# Altium footprint library Touch.PcbLib: 1 footprints
Each footprint in its own frame and in the unit in brackets; x right, y up, seen from the top. Pads: shape width x height; smd on the part's side, far side on the other; paste and mask are expansions set on the pad; w line width, h text height; cw(c..) or ccw(c..) is an arc to the next point about the centre after c.
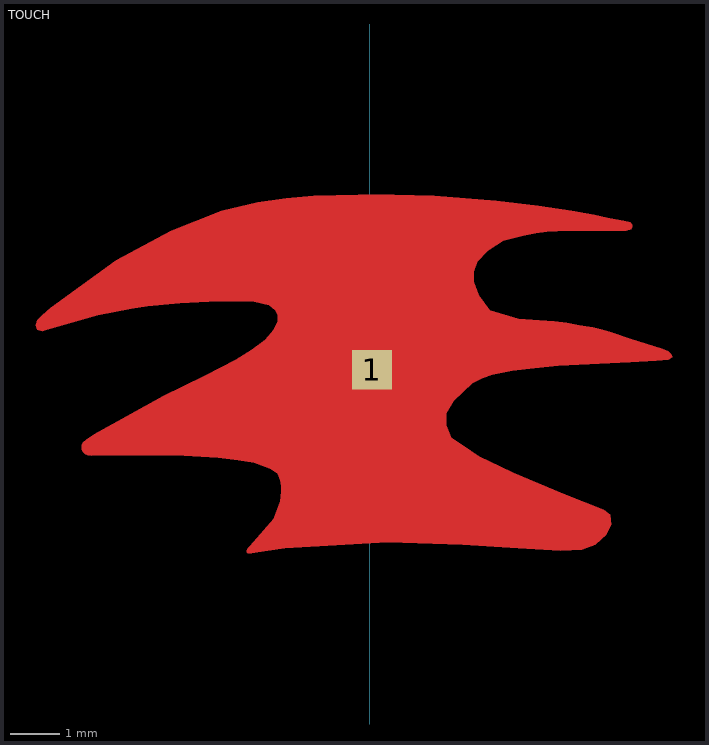
[diagram p0: the footprint, top view; thin cyan lines are the x and y axes]

## TOUCH [mm]
pads (1):
  rect 0.8x0.8 smd paste+0 mask+0: 1(0.05,22)
Top Layer:
  region: -2.25,25.375 -1.675,25.45 -1.125,25.5 -0.225,25.525 0.5,25.525 1.3,25.5 2.55,25.4 3.4,25.3 4.075,25.2 4.525,25.125 4.79,25.066 5.125,25 5.25,24.975 5.3,24.925 5.3,24.875 5.275,24.825 5.175,24.8 4,24.8 3.575,24.775 3.35,24.75 3.1,24.7 2.7,24.6 2.386,24.4 2.175,24.175 2.1,23.975 2.1,23.775 2.2,23.5 2.425,23.2 3,23.025 3.425,23 3.725,22.975 3.975,22.95 4.225,22.9 4.5,22.85 4.7,22.8 4.875,22.75 5.25,22.625 5.9,22.425 6.025,22.375 6.075,22.325 6.1,22.275 6.1,22.25 6.075,22.225 6.025,22.2 5.775,22.175 5.25,22.15 3.8,22.075 3.325,22.025 2.875,21.975 2.475,21.9 2.275,21.825 2.075,21.725 1.7,21.375 1.55,21.125 1.55,20.875 1.65,20.625 1.875,20.475 2.2,20.25 2.625,20.05 2.9,19.925 3.9,19.5 4.725,19.175 4.85,19.075 4.875,18.875 4.775,18.675 4.55,18.475 4.275,18.375 3.85,18.35 3,18.4 1.875,18.475 0.37,18.522 -1.711,18.4 -2.25,18.325 -2.375,18.3 -2.45,18.3 -2.475,18.325 -2.475,18.35 -2.45,18.4 -2.4,18.45 -1.925,19 -1.8,19.35 -1.775,19.55 -1.775,19.65 -1.8,19.775 -1.85,19.9 -2,20 -2.325,20.125 -2.65,20.175 -3.05,20.225 -3.9,20.275 -4.725,20.275 -5.606,20.262 -5.675,20.275 -5.725,20.3 -5.775,20.35 -5.8,20.4 -5.8,20.475 -5.775,20.525 -5.7,20.6 -5.55,20.7 -4.15,21.475 -3.325,21.875 -2.7,22.2 -2.375,22.4 -2.1,22.6 -1.925,22.8 -1.85,22.975 -1.85,23.1 -1.9,23.2 -2.025,23.3 -2.321,23.372 -3.05,23.375 -3.821,23.334 -4.475,23.275 -4.8,23.225 -5.475,23.1 -6.5,22.8 -6.6,22.775 -6.7,22.8 -6.725,22.9 -6.7,23 -6.6,23.1 -6.425,23.25 -5.8,23.7 -5.1,24.2 -4,24.8 -2.975,25.2